# EAGLE library part CON-10 (library _connecter)
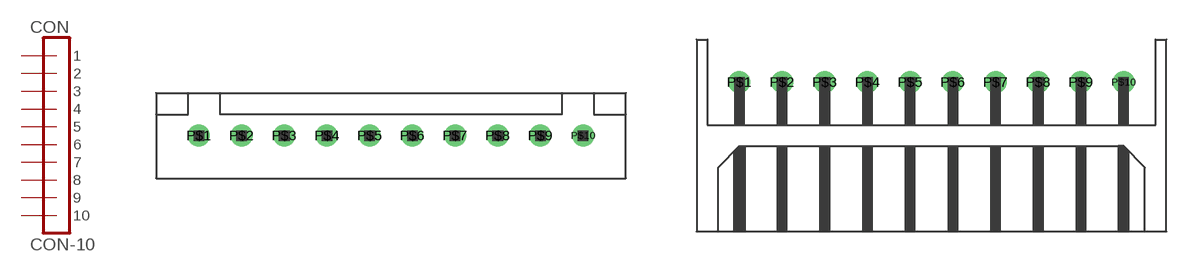
[diagram p2: symbol with the pads of 10-I; footprints 10-I, 10-L]

Designator prefix CON

## CON-10I  [10-I]
P$1  1  pas
P$2  2  pas
P$3  3  pas
P$4  4  pas
P$5  5  pas
P$6  6  pas
P$7  7  pas
P$8  8  pas
P$9  9  pas
P$10  10  pas

## CON-10L  [10-L]
Pads as for 10-I

## Footprint 10-I (pad centres in mm)
drill 0.8: P$1 -11.43,0; P$2 -8.89,0; P$3 -6.35,0; P$4 -3.81,0; P$5 -1.27,0; P$6 1.27,0; P$7 3.81,0; P$8 6.35,0; P$9 8.89,0; P$10 11.43,0

## Footprint 10-L (pad centres in mm)
drill 0.8: P$1 -11.43,0; P$2 -8.89,0; P$3 -6.35,0; P$4 -3.81,0; P$5 -1.27,0; P$6 1.27,0; P$7 3.81,0; P$8 6.35,0; P$9 8.89,0; P$10 11.43,0